# Altium footprint library Test Library.PcbLib: 1 footprints
Each footprint in its own frame and in the unit in brackets; x right, y up, seen from the top. Pads: shape width x height; smd on the part's side, far side on the other; paste and mask are expansions set on the pad; w line width, h text height; cw(c..) or ccw(c..) is an arc to the next point about the centre after c.
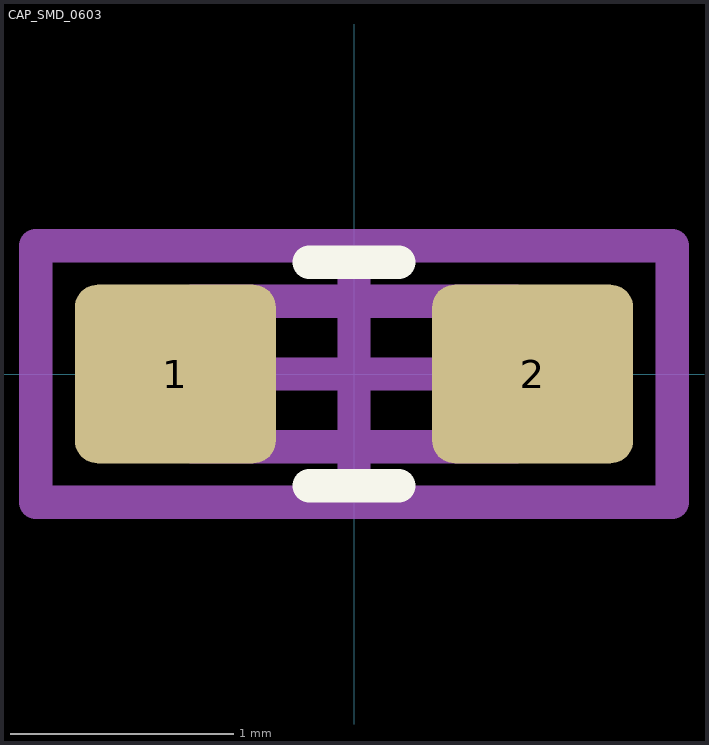
[diagram p0: the footprint, top view; thin cyan lines are the x and y axes]

## CAP_SMD_0603 [mm] "Capacitor SMD 0603 (1608 Metric)"
pads (2):
  rrect25% 0.9x0.8 smd: 1(-0.8,0) 2(0.8,0)
Top Overlay:
  lines w0.15: -0.2,-0.5 0.2,-0.5 ; -0.2,0.5 0.2,0.5
Bottom Assembly:
  text ".Designator" at -2.503,-0.266 h1.3
Mechanical 13:
  lines w0.15: -0.725,-0.325 -0.725,0.325 0.725,0.325 0.725,-0.325 -0.725,-0.325
Mechanical 15:
  lines w0.15: -0.5,0 0.5,0 ; 0,-0.5 0,0.5 ; -1.425,-0.575 -1.425,0.575 1.425,0.575 1.425,-0.575 -1.425,-0.575
3D body: height 1, standoff 0, extent -1.25,-0.4 1.25,0.4